# Altium schematic symbol library TPS22916CNYFPT.SchLib: 2 symbols
Pins are listed as number, name and electrical type; pins without a type are passive.

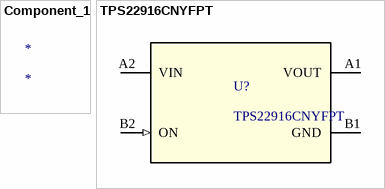
[diagram p0: symbols Component_1 to TPS22916CNYFPT]

## Component_1
designator *

## TPS22916CNYFPT
designator U?
No Description Available; Mfr_Name: Texas Instruments; Type: DEV; RefDes: RefDes; Copyright: Copyright (C) 2022 Ultra Librarian. All rights reserved.; Manufacturer_Part_Number: TPS22916CNYFPT
footprint YFP0004ABAB
pins: A1 VOUT (power), A2 VIN (power), B1 GND (power), B2 ON (in)